# EAGLE library part LTC3105 (library EPS_PQ60)
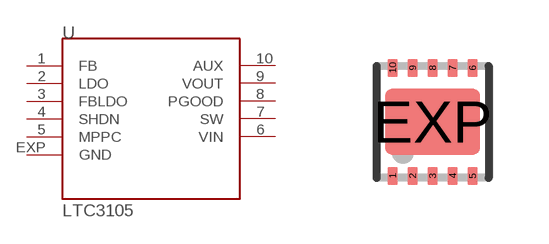
[diagram p0: symbol with the pads of DFN-3X3; footprint DFN-3X3]

Designator prefix -

## LTC3105  [DFN-3X3]
1  FB  pas
2  LDO  pas
3  FBLDO  sup
4  SHDN  in
5  MPPC  in
6  VIN  in
7  SW  pas
8  PGOOD  pas
9  VOUT  pas
10  AUX  pas
EXP  GND  sup

## Footprint DFN-3X3 (pad centres in mm)
smd 0.25 x 0.45: 1 -1,-1.35; 2 -0.5,-1.35; 3 0,-1.35; 4 0.5,-1.35; 5 1,-1.35; 6 1,1.35; 7 0.5,1.35; 8 0,1.35; 9 -0.5,1.35; 10 -1,1.35
smd 2.38 x 1.65: EXP 0,0